# Altium schematic symbol library ANT-LTE-CER-T.Schlib: 1 symbol
Pins are listed as number, name and electrical type; pins without a type are passive.

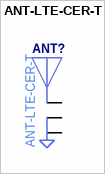
[diagram p0: symbol ANT-LTE-CER-T]

## ANT-LTE-CER-T
designator ANT?
BLE antenna; Manufacturer Part Number: ANT-LTE-CER-T
pins: 1, 2, 3